# EAGLE library part LED_RGB_* (library LED_RGB_PLCC6)
RGB LED with separate contacts for all 3 chips
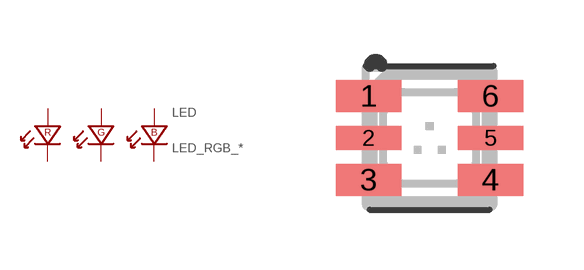
[diagram p0: symbol with the pads of PLCC-6; footprint PLCC-6]

Designator prefix LED; gates B=LED-B G=LED-G PART=PART R=LED-R VALUE=VALUE

## LED_RGB_PLCC-6  [PLCC-6]
1  R:A  pas
2  G:K  pas
3  G:A  pas
4  B:A  pas
5  B:K  pas
6  R:K  pas

## Footprint PLCC-6 (pad centres in mm)
PLCC-6 3.5x2.5x1.6 mm SMT LED package, silicone
smd 1.65 x 0.8: 1 -1.525,1.05; 3 -1.525,-1.05; 4 1.525,-1.05; 6 1.525,1.05
smd 1.65 x 0.6: 2 -1.525,0; 5 1.525,0